# Altium footprint library CH340c.PcbLib: 1 footprints
Each footprint in its own frame and in the unit in brackets; x right, y up, seen from the top. Pads: shape width x height; smd on the part's side, far side on the other; paste and mask are expansions set on the pad; w line width, h text height; cw(c..) or ccw(c..) is an arc to the next point about the centre after c.
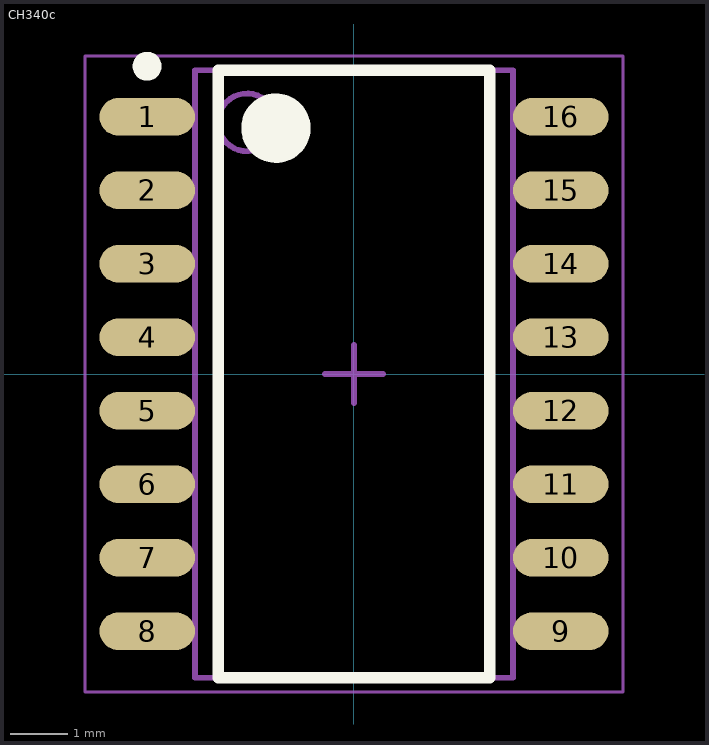
[diagram p0: the footprint, top view; thin cyan lines are the x and y axes]

## CH340c [mm] "SOP, 16-Leads, Body 10.30x5.30mm, Pitch 1.27mm, IPC Medium Density"
height 1.9
pads (16):
  oval 1.65x0.65 smd: 1(-3.575,4.445) 2(-3.575,3.175) 3(-3.575,1.905) 4(-3.575,0.635) 5(-3.575,-0.635) 6(-3.575,-1.905) 7(-3.575,-3.175) 8(-3.575,-4.445) 9(3.575,-4.445) 10(3.575,-3.175) 11(3.575,-1.905) 12(3.575,-0.635) 13(3.575,0.635) 14(3.575,1.905) 15(3.575,3.175) 16(3.575,4.445)
Top Overlay:
  circle w0.25: c-3.575,5.32 r0.125
  circle w0.6: c-1.35,4.25 r0.3
  lines w0.2: -2.35,-5.25 -2.35,5.25 2.35,5.25 2.35,-5.25 -2.35,-5.25
Mechanical 13:
  circle w0.1: c-1.85,4.35 r0.5
  lines w0.1: -2.75,-5.25 -2.75,5.25 2.75,5.25 2.75,-5.25 -2.75,-5.25
Mechanical 15:
  lines w0.05: -4.65,-5.5 -4.65,5.5 4.65,5.5 4.65,-5.5 -4.65,-5.5
  lines w0.1: -0.5,0 0.5,0 ; 0,-0.5 0,0.5
3D body "CH340c.step": height 1.9, standoff 0, extent -3.9,-5.25 3.9,5.25